# Altium footprint library Connectors.PcbLib: 94 footprints (part 3 of 6)
Each footprint in its own frame and in the unit in brackets; x right, y up, seen from the top. Pads: shape width x height; smd on the part's side, far side on the other; paste and mask are expansions set on the pad; w line width, h text height; cw(c..) or ccw(c..) is an arc to the next point about the centre after c.
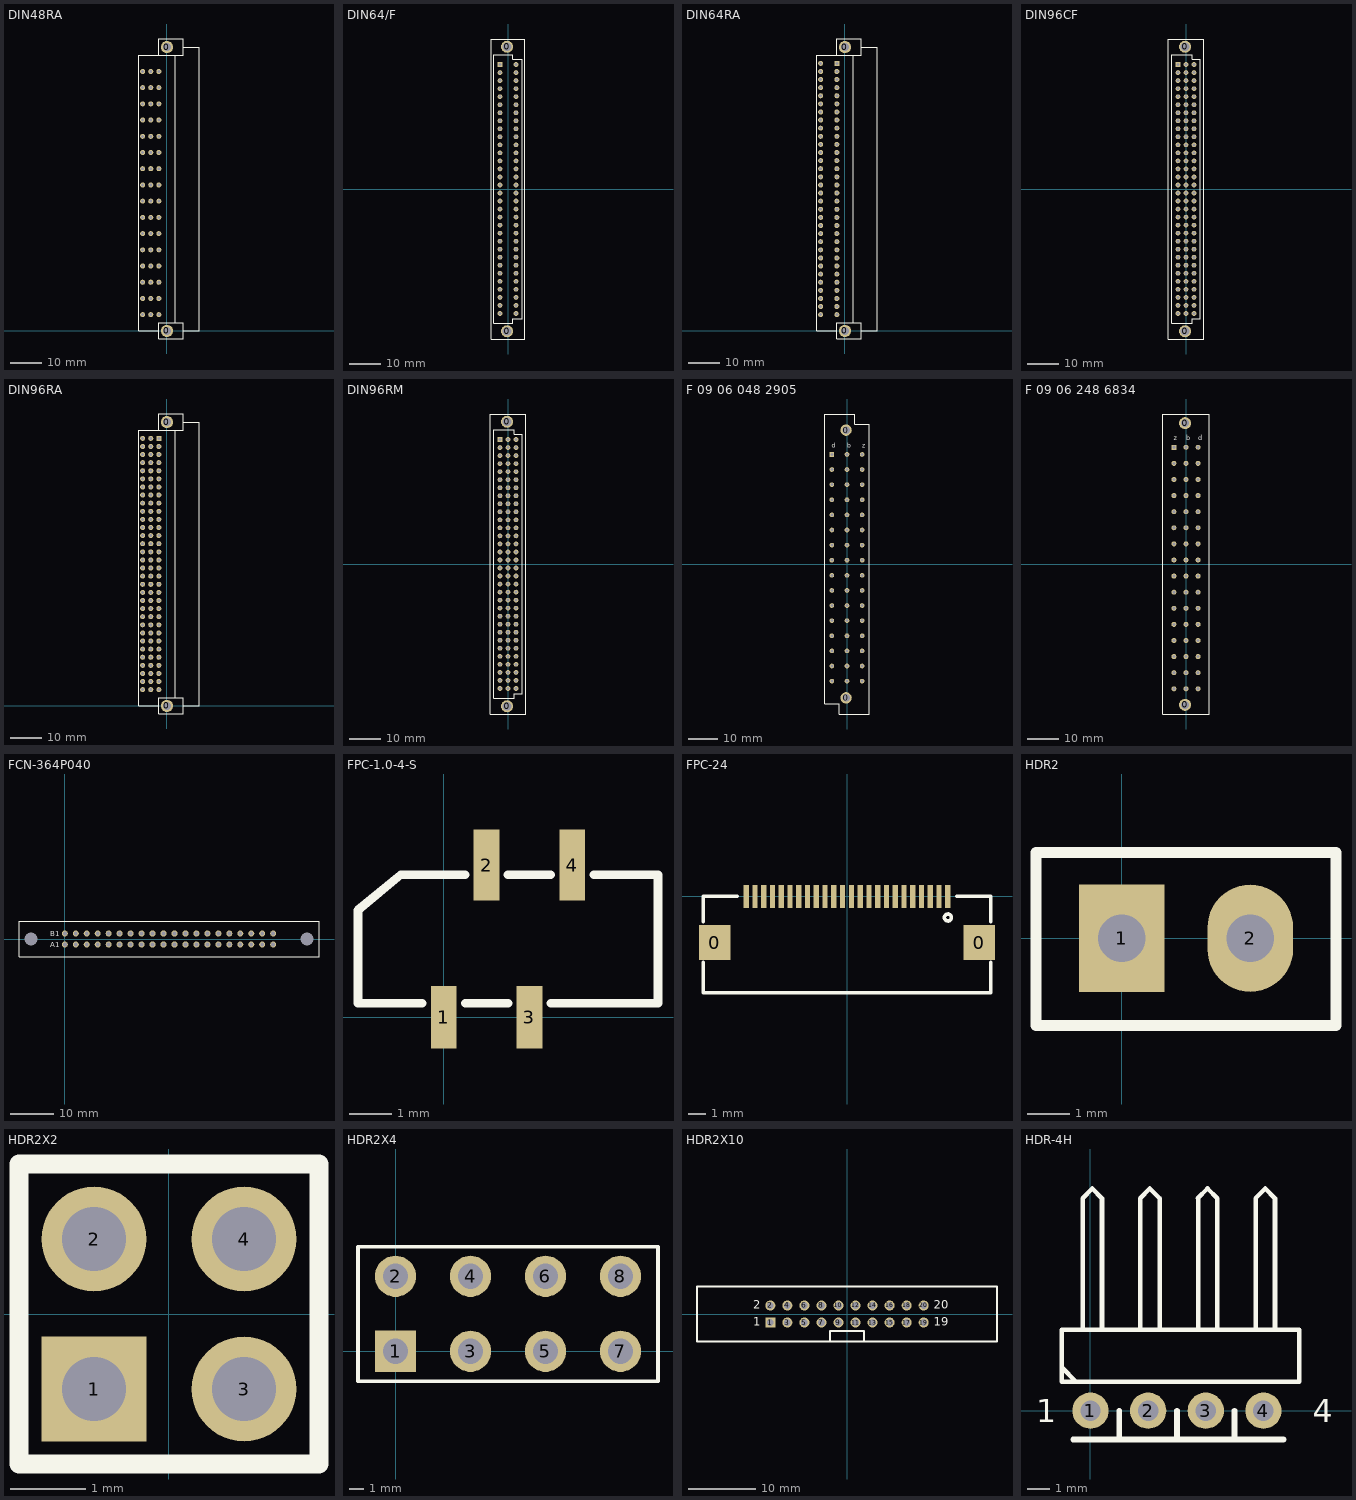
[diagram p2: the footprints below, top view; thin cyan lines are the x and y axes]

## DIN48RA [mil]
pads (50):
  round 150 hole 100: 0(0,0) 0(0,3500)
  round 62 hole 36: 2B(-200,3200) 2D(-300,3200) 2Z(-100,3200) 4B(-200,3000) 4D(-300,3000) 4Z(-100,3000) 6B(-200,2800) 6D(-300,2800) 6Z(-100,2800) 8B(-200,2600) 8D(-300,2600) 8Z(-100,2600) 10B(-200,2400) 10D(-300,2400) 10Z(-100,2400) 12B(-200,2200) 12D(-300,2200) 12Z(-100,2200) 14B(-200,2000) 14D(-300,2000) 14Z(-100,2000) 16B(-200,1800) 16D(-300,1800) 16Z(-100,1800) 18B(-200,1600) 18D(-300,1600) 18Z(-100,1600) 20B(-200,1400) 20D(-300,1400) 20Z(-100,1400) 22B(-200,1200) 22D(-300,1200) 22Z(-100,1200) 24B(-200,1000) 24D(-300,1000) 24Z(-100,1000) 26B(-200,800) 26D(-300,800) 26Z(-100,800) 28B(-200,600) 28D(-300,600) 28Z(-100,600) 30B(-200,400) 30D(-300,400) 30Z(-100,400) 32B(-200,200) 32D(-300,200) 32Z(-100,200)
Top Overlay:
  lines w10: -100,0 -350,0 -350,3400 -100,3400 ; 100,100 100,3400 ; -100,3400 -100,3600 200,3600 200,3500 ; -100,3400 200,3400 200,3500 ; 200,0 200,100 -100,100 -100,-100 200,-100 200,0 ; 200,0 400,0 400,3500 200,3500

## DIN64/F [mm]
pads (66):
  round 3.81 hole 2.8: 0(-0.3,-45) 0(-0.3,45)
  rect 1.5x1.5 hole 1: 1A(-2.54,39.37)
  round 1.5 hole 1: 1C(2.54,39.37) 2A(-2.54,36.83) 2C(2.54,36.83) 3A(-2.54,34.29) 3C(2.54,34.29) 4A(-2.54,31.75) 4C(2.54,31.75) 5A(-2.54,29.21) 5C(2.54,29.21) 6A(-2.54,26.67) 6C(2.54,26.67) 7A(-2.54,24.13) 7C(2.54,24.13) 8A(-2.54,21.59) 8C(2.54,21.59) 9A(-2.54,19.05) 9C(2.54,19.05) 10A(-2.54,16.51) 10C(2.54,16.51) 11A(-2.54,13.97) 11C(2.54,13.97) 12A(-2.54,11.43) 12C(2.54,11.43) 13A(-2.54,8.89) 13C(2.54,8.89) 14A(-2.54,6.35) 14C(2.54,6.35) 15A(-2.54,3.81) 15C(2.54,3.81) 16A(-2.54,1.27) 16C(2.54,1.27) 17A(-2.54,-1.27) 17C(2.54,-1.27) 18A(-2.54,-3.81) 18C(2.54,-3.81) 19A(-2.54,-6.35) 19C(2.54,-6.35) 20A(-2.54,-8.89) 20C(2.54,-8.89) 21A(-2.54,-11.43) 21C(2.54,-11.43) 22A(-2.54,-13.97) 22C(2.54,-13.97) 23A(-2.54,-16.51) 23C(2.54,-16.51) 24A(-2.54,-19.05) 24C(2.54,-19.05) 25A(-2.54,-21.59) 25C(2.54,-21.59) 26A(-2.54,-24.13) 26C(2.54,-24.13) 27A(-2.54,-26.67) 27C(2.54,-26.67) 28A(-2.54,-29.21) 28C(2.54,-29.21) 29A(-2.54,-31.75) 29C(2.54,-31.75) 30A(-2.54,-34.29) 30C(2.54,-34.29) 31A(-2.54,-36.83) 31C(2.54,-36.83) 32A(-2.54,-39.37) 32C(2.54,-39.37)
Top Overlay:
  lines w0.254: -5.25,-47.45 5.25,-47.45 5.25,47.45 -5.25,47.45 -5.25,-47.45 ; -4.5,-42.5 -4.5,42.5 1.5,42.5 1.5,41 4.5,41 4.5,-41 1.5,-41 1.5,-42.5 -4.5,-42.5

## DIN64RA [mil]
pads (66):
  round 150 hole 100: 0(0,0) 0(0,3500)
  rect 62x62 hole 36: 1A(-100,3300)
  round 62 hole 36: 1C(-300,3300) 2A(-100,3200) 2C(-300,3200) 3A(-100,3100) 3C(-300,3100) 4A(-100,3000) 4C(-300,3000) 5A(-100,2900) 5C(-300,2900) 6A(-100,2800) 6C(-300,2800) 7A(-100,2700) 7C(-300,2700) 8A(-100,2600) 8C(-300,2600) 9A(-100,2500) 9C(-300,2500) 10A(-100,2400) 10C(-300,2400) 11A(-100,2300) 11C(-300,2300) 12A(-100,2200) 12C(-300,2200) 13A(-100,2100) 13C(-300,2100) 14A(-100,2000) 14C(-300,2000) 15A(-100,1900) 15C(-300,1900) 16A(-100,1800) 16C(-300,1800) 17A(-100,1700) 17C(-300,1700) 18A(-100,1600) 18C(-300,1600) 19A(-100,1500) 19C(-300,1500) 20A(-100,1400) 20C(-300,1400) 21A(-100,1300) 21C(-300,1300) 22A(-100,1200) 22C(-300,1200) 23A(-100,1100) 23C(-300,1100) 24A(-100,1000) 24C(-300,1000) 25A(-100,900) 25C(-300,900) 26A(-100,800) 26C(-300,800) 27A(-100,700) 27C(-300,700) 28A(-100,600) 28C(-300,600) 29A(-100,500) 29C(-300,500) 30A(-100,400) 30C(-300,400) 31A(-100,300) 31C(-300,300) 32A(-100,200) 32C(-300,200)
Top Overlay:
  lines w10: -100,0 -350,0 -350,3400 -100,3400 ; 100,100 100,3400 ; -100,3400 -100,3600 200,3600 200,3500 ; -100,3400 200,3400 200,3500 ; 200,0 200,100 -100,100 -100,-100 200,-100 200,0 ; 200,0 400,0 400,3500 200,3500

## DIN96CF [mm] "DIN 41612 Type C Female 96"
pads (98):
  round 3.81 hole 2.8: 0(-0.3,-45) 0(-0.3,45)
  rect 1.5x1.5 hole 1: 1A(-2.54,39.37)
  round 1.5 hole 1: 1B(0,39.37) 1C(2.54,39.37) 2A(-2.54,36.83) 2B(0,36.83) 2C(2.54,36.83) 3A(-2.54,34.29) 3B(0,34.29) 3C(2.54,34.29) 4A(-2.54,31.75) 4B(0,31.75) 4C(2.54,31.75) 5A(-2.54,29.21) 5B(0,29.21) 5C(2.54,29.21) 6A(-2.54,26.67) 6B(0,26.67) 6C(2.54,26.67) 7A(-2.54,24.13) 7B(0,24.13) 7C(2.54,24.13) 8A(-2.54,21.59) 8B(0,21.59) 8C(2.54,21.59) 9A(-2.54,19.05) 9B(0,19.05) 9C(2.54,19.05) 10A(-2.54,16.51) 10B(0,16.51) 10C(2.54,16.51) 11A(-2.54,13.97) 11B(0,13.97) 11C(2.54,13.97) 12A(-2.54,11.43) 12B(0,11.43) 12C(2.54,11.43) 13A(-2.54,8.89) 13B(0,8.89) 13C(2.54,8.89) 14A(-2.54,6.35) 14B(0,6.35) 14C(2.54,6.35) 15A(-2.54,3.81) 15B(0,3.81) 15C(2.54,3.81) 16A(-2.54,1.27) 16B(0,1.27) 16C(2.54,1.27) 17A(-2.54,-1.27) 17B(0,-1.27) 17C(2.54,-1.27) 18A(-2.54,-3.81) 18B(0,-3.81) 18C(2.54,-3.81) 19A(-2.54,-6.35) 19B(0,-6.35) 19C(2.54,-6.35) 20A(-2.54,-8.89) 20B(0,-8.89) 20C(2.54,-8.89) 21A(-2.54,-11.43) 21B(0,-11.43) 21C(2.54,-11.43) 22A(-2.54,-13.97) 22B(0,-13.97) 22C(2.54,-13.97) 23A(-2.54,-16.51) 23B(0,-16.51) 23C(2.54,-16.51) 24A(-2.54,-19.05) 24B(0,-19.05) 24C(2.54,-19.05) 25A(-2.54,-21.59) 25B(0,-21.59) 25C(2.54,-21.59) 26A(-2.54,-24.13) 26B(0,-24.13) 26C(2.54,-24.13) 27A(-2.54,-26.67) 27B(0,-26.67) 27C(2.54,-26.67) 28A(-2.54,-29.21) 28B(0,-29.21) 28C(2.54,-29.21) 29A(-2.54,-31.75) 29B(0,-31.75) 29C(2.54,-31.75) 30A(-2.54,-34.29) 30B(0,-34.29) 30C(2.54,-34.29) 31A(-2.54,-36.83) 31B(0,-36.83) 31C(2.54,-36.83) 32A(-2.54,-39.37) 32B(0,-39.37) 32C(2.54,-39.37)
Top Overlay:
  lines w0.254: -5.55,-47.45 5.55,-47.45 5.55,47.45 -5.55,47.45 -5.55,-47.45 ; -4.5,-42.5 -4.5,42.5 2,42.5 2,41 4.5,41 4.5,-41 2,-41 2,-42.5 -4.5,-42.5

## DIN96RA [mil]
pads (98):
  round 150 hole 100: 0(0,0) 0(0,3500)
  rect 62x62 hole 36: 1A(-100,3300)
  round 62 hole 36: 1B(-200,3300) 1C(-300,3300) 2A(-100,3200) 2B(-200,3200) 2C(-300,3200) 3A(-100,3100) 3B(-200,3100) 3C(-300,3100) 4A(-100,3000) 4B(-200,3000) 4C(-300,3000) 5A(-100,2900) 5B(-200,2900) 5C(-300,2900) 6A(-100,2800) 6B(-200,2800) 6C(-300,2800) 7A(-100,2700) 7B(-200,2700) 7C(-300,2700) 8A(-100,2600) 8B(-200,2600) 8C(-300,2600) 9A(-100,2500) 9B(-200,2500) 9C(-300,2500) 10A(-100,2400) 10B(-200,2400) 10C(-300,2400) 11A(-100,2300) 11B(-200,2300) 11C(-300,2300) 12A(-100,2200) 12B(-200,2200) 12C(-300,2200) 13A(-100,2100) 13B(-200,2100) 13C(-300,2100) 14A(-100,2000) 14B(-200,2000) 14C(-300,2000) 15A(-100,1900) 15B(-200,1900) 15C(-300,1900) 16A(-100,1800) 16B(-200,1800) 16C(-300,1800) 17A(-100,1700) 17B(-200,1700) 17C(-300,1700) 18A(-100,1600) 18B(-200,1600) 18C(-300,1600) 19A(-100,1500) 19B(-200,1500) 19C(-300,1500) 20A(-100,1400) 20B(-200,1400) 20C(-300,1400) 21A(-100,1300) 21B(-200,1300) 21C(-300,1300) 22A(-100,1200) 22B(-200,1200) 22C(-300,1200) 23A(-100,1100) 23B(-200,1100) 23C(-300,1100) 24A(-100,1000) 24B(-200,1000) 24C(-300,1000) 25A(-100,900) 25B(-200,900) 25C(-300,900) 26A(-100,800) 26B(-200,800) 26C(-300,800) 27A(-100,700) 27B(-200,700) 27C(-300,700) 28A(-100,600) 28B(-200,600) 28C(-300,600) 29A(-100,500) 29B(-200,500) 29C(-300,500) 30A(-100,400) 30B(-200,400) 30C(-300,400) 31A(-100,300) 31B(-200,300) 31C(-300,300) 32A(-100,200) 32B(-200,200) 32C(-300,200)
Top Overlay:
  lines w10: -100,0 -350,0 -350,3400 -100,3400 ; 100,100 100,3400 ; -100,3400 200,3400 200,3500 ; -100,3400 -100,3600 200,3600 200,3500 ; 200,0 200,-100 -100,-100 -100,100 200,100 200,0 ; 200,0 400,0 400,3500 200,3500

## DIN96RM [mm] "DIN 41612 Type R Male 96"
pads (98):
  round 3.81 hole 2.8: 0(-0.3,-45) 0(-0.3,45)
  rect 1.5x1.5 hole 1: 1A(-2.54,39.37)
  round 1.5 hole 1: 1B(0,39.37) 1C(2.54,39.37) 2A(-2.54,36.83) 2B(0,36.83) 2C(2.54,36.83) 3A(-2.54,34.29) 3B(0,34.29) 3C(2.54,34.29) 4A(-2.54,31.75) 4B(0,31.75) 4C(2.54,31.75) 5A(-2.54,29.21) 5B(0,29.21) 5C(2.54,29.21) 6A(-2.54,26.67) 6B(0,26.67) 6C(2.54,26.67) 7A(-2.54,24.13) 7B(0,24.13) 7C(2.54,24.13) 8A(-2.54,21.59) 8B(0,21.59) 8C(2.54,21.59) 9A(-2.54,19.05) 9B(0,19.05) 9C(2.54,19.05) 10A(-2.54,16.51) 10B(0,16.51) 10C(2.54,16.51) 11A(-2.54,13.97) 11B(0,13.97) 11C(2.54,13.97) 12A(-2.54,11.43) 12B(0,11.43) 12C(2.54,11.43) 13A(-2.54,8.89) 13B(0,8.89) 13C(2.54,8.89) 14A(-2.54,6.35) 14B(0,6.35) 14C(2.54,6.35) 15A(-2.54,3.81) 15B(0,3.81) 15C(2.54,3.81) 16A(-2.54,1.27) 16B(0,1.27) 16C(2.54,1.27) 17A(-2.54,-1.27) 17B(0,-1.27) 17C(2.54,-1.27) 18A(-2.54,-3.81) 18B(0,-3.81) 18C(2.54,-3.81) 19A(-2.54,-6.35) 19B(0,-6.35) 19C(2.54,-6.35) 20A(-2.54,-8.89) 20B(0,-8.89) 20C(2.54,-8.89) 21A(-2.54,-11.43) 21B(0,-11.43) 21C(2.54,-11.43) 22A(-2.54,-13.97) 22B(0,-13.97) 22C(2.54,-13.97) 23A(-2.54,-16.51) 23B(0,-16.51) 23C(2.54,-16.51) 24A(-2.54,-19.05) 24B(0,-19.05) 24C(2.54,-19.05) 25A(-2.54,-21.59) 25B(0,-21.59) 25C(2.54,-21.59) 26A(-2.54,-24.13) 26B(0,-24.13) 26C(2.54,-24.13) 27A(-2.54,-26.67) 27B(0,-26.67) 27C(2.54,-26.67) 28A(-2.54,-29.21) 28B(0,-29.21) 28C(2.54,-29.21) 29A(-2.54,-31.75) 29B(0,-31.75) 29C(2.54,-31.75) 30A(-2.54,-34.29) 30B(0,-34.29) 30C(2.54,-34.29) 31A(-2.54,-36.83) 31B(0,-36.83) 31C(2.54,-36.83) 32A(-2.54,-39.37) 32B(0,-39.37) 32C(2.54,-39.37)
Top Overlay:
  lines w0.254: -5.55,-47.45 5.55,-47.45 5.55,47.45 -5.55,47.45 -5.55,-47.45 ; -4.5,-42.5 -4.5,42.5 2,42.5 2,41 2.5,41 4.5,41 4.5,-41 3,-41 2,-41 2,-42.5 -4.5,-42.5

## F 09 06 048 2905 [mil] "Harting Type F 09 06 048 2905"
pads (50):
  round 150 hole 100: 0(-11.81,-1771.65) 0(-11.81,1771.65)
  round 62 hole 39.37: 2B(0,1450) 2Z(200,1450) 4B(0,1250) 4D(-200,1250) 4Z(200,1250) 6B(0,1050) 6D(-200,1050) 6Z(200,1050) 8B(0,850) 8D(-200,850) 8Z(200,850) 10B(0,650) 10D(-200,650) 10Z(200,650) 12B(0,450) 12D(-200,450) 12Z(200,450) 14B(0,250) 14D(-200,250) 14Z(200,250) 16B(0,50) 16D(-200,50) 16Z(200,50) 18B(0,-150) 18D(-200,-150) 18Z(200,-150) 20B(0,-350) 20D(-200,-350) 20Z(200,-350) 22B(0,-550) 22D(-200,-550) 22Z(200,-550) 24B(0,-750) 24D(-200,-750) 24Z(200,-750) 26B(0,-950) 26D(-200,-950) 26Z(200,-950) 28B(0,-1150) 28D(-200,-1150) 28Z(200,-1150) 30B(0,-1350) 30D(-200,-1350) 30Z(200,-1350) 32B(0,-1550) 32D(-200,-1550) 32Z(200,-1550)
  rect 62x62 hole 39.37: 2D(-200,1450)
Top Overlay:
  lines w10: -291.34,-1850.39 -291.34,1985.24 100,1985.24 100,1850.39 291.34,1850.39 291.34,-1985.24 -100,-1985.24 -100,-1850.39 -291.34,-1850.39
  text "z" at 200,1535.43 h60
  text "b" at 0,1535.43 h60
  text "d" at -200,1535.43 h60

## F 09 06 248 6834 [mil] "Harting Type F 09 06 248 6834"
pads (50):
  round 150 hole 100: 0(-11.81,-1750) 0(-11.81,1750)
  round 62 hole 39.37: 2B(0,1450) 2D(150,1450) 4B(0,1250) 4D(150,1250) 4Z(-150,1250) 6B(0,1050) 6D(150,1050) 6Z(-150,1050) 8B(0,850) 8D(150,850) 8Z(-150,850) 10B(0,650) 10D(150,650) 10Z(-150,650) 12B(0,450) 12D(150,450) 12Z(-150,450) 14B(0,250) 14D(150,250) 14Z(-150,250) 16B(0,50) 16D(150,50) 16Z(-150,50) 18B(0,-150) 18D(150,-150) 18Z(-150,-150) 20B(0,-350) 20D(150,-350) 20Z(-150,-350) 22B(0,-550) 22D(150,-550) 22Z(-150,-550) 24B(0,-750) 24D(150,-750) 24Z(-150,-750) 26B(0,-950) 26D(150,-950) 26Z(-150,-950) 28B(0,-1150) 28D(150,-1150) 28Z(-150,-1150) 30B(0,-1350) 30D(150,-1350) 30Z(-150,-1350) 32B(0,-1550) 32D(150,-1550) 32Z(-150,-1550)
  rect 62x62 hole 39.37: 2Z(-150,1450)
Top Overlay:
  lines w10: -291.34,-1863.19 291.34,-1863.19 291.34,1863.19 -291.34,1863.19 -291.34,-1863.19
  text "z" at -150,1535.43 h60
  text "b" at 0,1535.43 h60
  text "d" at 150,1535.43 h60

## FCN-364P040 [mm] "FCN-364P040"
pads (42):
  round 1.4 hole 3: 0(-7.86,0) 0(56.12,0)
  round 1.4 hole 0.9: A1(0,-1.27) A2(2.54,-1.27) A3(5.08,-1.27) A4(7.62,-1.27) A5(10.16,-1.27) A6(12.7,-1.27) A7(15.24,-1.27) A8(17.78,-1.27) A9(20.32,-1.27) A10(22.86,-1.27) A11(25.4,-1.27) A12(27.94,-1.27) A13(30.48,-1.27) A14(33.02,-1.27) A15(35.56,-1.27) A16(38.1,-1.27) A17(40.64,-1.27) A18(43.18,-1.27) A19(45.72,-1.27) A20(48.26,-1.27) B1(0,1.27) B2(2.54,1.27) B3(5.08,1.27) B4(7.62,1.27) B5(10.16,1.27) B6(12.7,1.27) B7(15.24,1.27) B8(17.78,1.27) B9(20.32,1.27) B10(22.86,1.27) B11(25.4,1.27) B12(27.94,1.27) B13(30.48,1.27) B14(33.02,1.27) B15(35.56,1.27) B16(38.1,1.27) B17(40.64,1.27) B18(43.18,1.27) B19(45.72,1.27) B20(48.26,1.27)
Top Overlay:
  lines w0.254: -10.61,-4.125 58.87,-4.125 58.87,4.125 -10.61,4.125 -10.61,-4.125
  text "B1" at -3.4,0.6 h1.2
  text "A1" at -3.4,-1.9 h1.2

## FPC-1.0-4-S [mm]
pads (4):
  rect 0.6x1.45 smd: 1(0,0) 3(2,0)
  rect 0.6x1.65 smd: 2(1,3.55) 4(3,3.55)
Top Overlay:
  lines w0.2: -0.5,0.325 -2,0.325 -2,2.5 -1,3.325 0.5,3.325 ; 0.5,0.325 1.5,0.325 ; 1.5,3.325 2.5,3.325 ; 2.5,0.325 5,0.325 5,3.325 3.5,3.325

## FPC-24 [mm] "FPC-24"
pads (26):
  rect 1.8x2 smd: 0(-7.55,-2.625) 0(7.55,-2.625)
  rect 0.3x1.3 smd: 1(5.75,0) 2(5.25,0) 3(4.75,0) 4(4.25,0) 5(3.75,0) 6(3.25,0) 7(2.75,0) 8(2.25,0) 9(1.75,0) 10(1.25,0) 11(0.75,0) 12(0.25,0) 13(-0.25,0) 14(-0.75,0) 15(-1.25,0) 16(-1.75,0) 17(-2.25,0) 18(-2.75,0) 19(-3.25,0) 20(-3.75,0) 21(-4.25,0) 22(-4.75,0) 23(-5.25,0) 24(-5.75,0)
Top Overlay:
  circle w0.2: c5.75,-1.2 r0.2
  lines w0.2: -8.2,-3.75 -8.2,-5.5 8.2,-5.5 8.2,-3.75 ; -8.2,-1.45 -8.2,0 -6.25,0 ; 6.25,0 8.2,0 8.2,-1.45

## HDR2 [mm] "connector ,2Pin,5.08mm"
pads (2):
  rect 2x2.5 hole 1.1: 1(0,0)
  oval 2x2.5 hole 1.1: 2(3,0)
Top Overlay:
  lines w0.254: -2,-2.032 5,-2.032 ; -2,-2 -2,2 5,2 5,-2

## HDR2X2 [mm]
pads (4):
  rect 1.4x1.4 hole 0.85: 1(-1,-1)
  round 1.4 hole 0.85: 2(-1,1) 3(1,-1) 4(1,1)
Top Overlay:
  lines w0.254: -2,-2 -2,2 2,2 2,-2 -2,-2

## HDR2X4 [mm] "HDR2X4 5.08mm"
pads (8):
  rect 2.8x2.8 hole 1.7: 1(0,0)
  round 2.8 hole 1.7: 2(0,5.08) 3(5.08,0) 4(5.08,5.08) 5(10.16,0) 6(10.16,5.08) 7(15.24,0) 8(15.24,5.08)
Top Overlay:
  lines w0.254: -2.54,-2.032 17.78,-2.032 17.78,7.08 -2.54,7.08 -2.54,-2.032

## HDR2X10 [mm] "Connector; Header; 10x2 Position"
pads (20):
  rect 1.5x1.5 hole 1: 1(-11.43,-1.27)
  round 1.5 hole 1: 2(-11.43,1.27) 3(-8.89,-1.27) 4(-8.89,1.27) 5(-6.35,-1.27) 6(-6.35,1.27) 7(-3.81,-1.27) 8(-3.81,1.27) 9(-1.27,-1.27) 10(-1.27,1.27) 11(1.27,-1.27) 12(1.27,1.27) 13(3.81,-1.27) 14(3.81,1.27) 15(6.35,-1.27) 16(6.35,1.27) 17(8.89,-1.27) 18(8.89,1.27) 19(11.43,-1.27) 20(11.43,1.27)
Top Overlay:
  lines w0.254: -2.54,-4.1 -2.54,-2.54 2.54,-2.54 2.54,-4.1 ; -22.35,-4.1 22.35,-4.1 22.35,4.1 -22.35,4.1 -22.35,-4.1
  text "2" at -13.97,0.762 h1.27
  text "1" at -13.97,-1.778 h1.27
  text "19" at 12.954,-1.778 h1.27
  text "20" at 12.954,0.762 h1.27

## HDR-4H [mm] "单排弯脚排针，4脚"
height 7.01
pads (4):
  round 1.6 hole 0.9: 1(0,0) 2(2.54,0) 3(5.08,0) 4(7.62,0)
Top Overlay:
  lines w0.2: -1.27,1.905 -0.635,1.27 ; -0.348,9.364 0.075,9.787 0.499,9.364 0.508,9.355 0.508,3.556 ; -0.339,3.556 -0.339,9.364 ; 2.192,9.364 2.615,9.787 3.039,9.364 ; 2.201,3.556 2.201,9.364 ; 3.048,3.556 3.048,9.364 ; 4.732,9.364 5.155,9.787 5.579,9.364 ; 4.741,3.556 4.741,9.364 ; 5.588,3.556 5.588,9.364 ; 7.272,9.364 7.695,9.787 8.119,9.364 ; 7.281,3.556 7.281,9.364 ; 8.128,3.556 8.128,9.364 ; -1.27,1.27 9.2,1.27 9.2,3.556 -1.27,3.556 -1.27,1.27
  lines w0.254: -0.762,-1.27 8.5,-1.27 ; 1.27,-1.2 1.27,0 ; 3.81,-1.27 3.81,0 ; 6.35,-1.27 6.35,0
  text "4" at 9.8,-0.5 h1.02
  text "1" at -2.4,-0.5 h1.02
Bottom Overlay:
  lines w0.254: -0.762,-1.27 8.5,-1.27 ; 1.27,-1.2 1.27,0 ; 3.81,-1.27 3.81,0 ; 6.35,-1.27 6.35,0